# EAGLE library part FDC9266 (library FDC9266_floppy_korr)
FDC9266 MFM Disk Controller
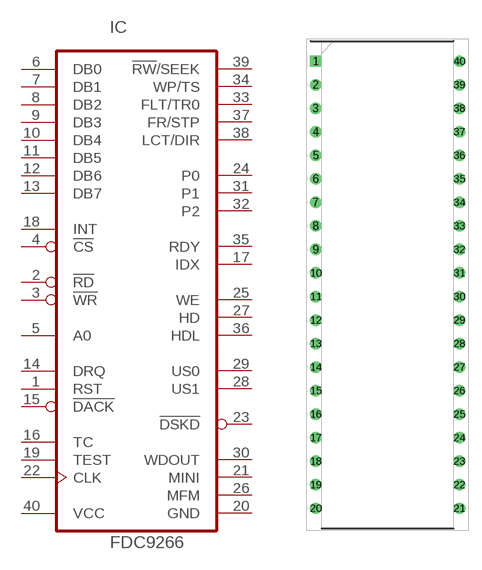
[diagram p6: symbol with the pads of DIP1550W53P254L5232H424Q40N; footprint DIP1550W53P254L5232H424Q40N]

Designator prefix IC

## FDC9266  [DIP1550W53P254L5232H424Q40N]
1  RST  in
2  !RD  in
3  !WR  in
4  !CS  in
5  A0  in
6  DB0
7  DB1
8  DB2
9  DB3
10  DB4
11  DB5
12  DB6
13  DB7
14  DRQ  out
15  !DACK  in
16  TC  in
17  IDX  in
18  INT  out
19  TEST  in
20  GND  pwr
21  MINI  in
22  CLK  in
23  !DSKD  in
24  P0  in
25  WE  out
26  MFM  out
27  HD  out
28  US1  out
29  US0  out
30  WDOUT  out
31  P1  in
32  P2  in
33  FLT/TR0  in
34  WP/TS  in
35  RDY  in
36  HDL  out
37  FR/STP  out
38  LCT/DIR  out
39  !RW!/SEEK  out
40  VCC  pwr

## Footprint DIP1550W53P254L5232H424Q40N (pad centres in mm)
40 Pin DIP
drill 0.73 pad 1.13 square: 1 -7.748,24.13
drill 0.73 pad 1.13: 2 -7.748,21.59; 3 -7.748,19.05; 4 -7.748,16.51; 5 -7.748,13.97; 6 -7.748,11.43; 7 -7.748,8.89; 8 -7.748,6.35; 9 -7.748,3.81; 10 -7.748,1.27; 11 -7.748,-1.27; 12 -7.748,-3.81; 13 -7.748,-6.35; 14 -7.748,-8.89; 15 -7.748,-11.43; 16 -7.748,-13.97; 17 -7.748,-16.51; 18 -7.748,-19.05; 19 -7.748,-21.59; 20 -7.748,-24.13; 21 7.748,-24.13; 22 7.748,-21.59; 23 7.748,-19.05; 24 7.748,-16.51; 25 7.748,-13.97; 26 7.748,-11.43; 27 7.748,-8.89; 28 7.748,-6.35; 29 7.748,-3.81; 30 7.748,-1.27; 31 7.748,1.27; 32 7.748,3.81; 33 7.748,6.35; 34 7.748,8.89; 35 7.748,11.43; 36 7.748,13.97; 37 7.748,16.51; 38 7.748,19.05; 39 7.748,21.59; 40 7.748,24.13